# Altium schematic symbol library UnifiedResistors.SchLib: 14 symbols
Pins are listed as number, name and electrical type; pins without a type are passive.

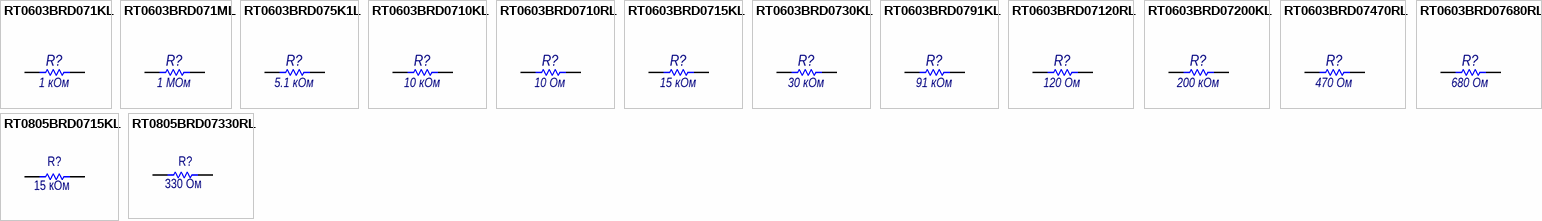
[diagram p0: symbols RT0603BRD071KL to RT0805BRD07330RL]

## RT0603BRD071KL
designator R?  value 1 кОм  (hidden comment: RT0603BRD071KL)
footprint RES0603
pins: 0, 1

## RT0603BRD071ML
designator R?  value 1 МОм  (hidden comment: RT0603BRD071ML)
footprint RESC1608X04L (Chip Resistor, 2-Leads, Body 1,60x0,85mm, IPC High Density)
pins: 0, 1

## RT0603BRD075K1L
designator R?  value 5.1 кОм  (hidden comment: RT0603BRD075K1L)
footprint RES0603
pins: 0, 1

## RT0603BRD0710KL
designator R?  value 10 кОм  (hidden comment: RT0603BRD0710KL)
footprint RES0603
pins: 0, 1

## RT0603BRD0710RL
designator R?  value 10 Ом  (hidden comment: RT0603BRD0710RL)
footprint RES0603
pins: 0, 1

## RT0603BRD0715KL
designator R?  value 15 кОм  (hidden comment: RT0603BRD0715KL)
footprint RES0603
pins: 0, 1

## RT0603BRD0730KL
designator R?  value 30 кОм  (hidden comment: RT0603BRD0730KL)
footprint RES0603
pins: 0, 1

## RT0603BRD0791KL
designator R?  value 91 кОм  (hidden comment: RT0603BRD0791KL)
footprint RES0603
pins: 0, 1

## RT0603BRD07120RL
designator R?  value 120 Ом  (hidden comment: RT0603BRD07120RL)
footprint RES0603
pins: 0, 1

## RT0603BRD07200KL
designator R?  value 200 кОм  (hidden comment: RT0603BRD07200KL)
footprint RES0603
pins: 0, 1

## RT0603BRD07470RL
designator R?  value 470 Ом  (hidden comment: RT0603BRD07470RL)
footprint RES0603
pins: 0, 1

## RT0603BRD07680RL
designator R?  value 680 Ом  (hidden comment: RT0603BRD07680RL)
footprint RES0603
pins: 0, 1

## RT0805BRD0715KL
designator R?  value 15 кОм  (hidden comment: RT0805BRD0715KL)
footprint RES0805
footprint R0805 (2012M)
pins: 0, 1

## RT0805BRD07330RL
designator R?  value 330 Ом  (hidden comment: RT0805BRD07330RL)
footprint RES0805
pins: 0, 1